# EAGLE library part K554SA3 (library _mtvl_ic.soviet)
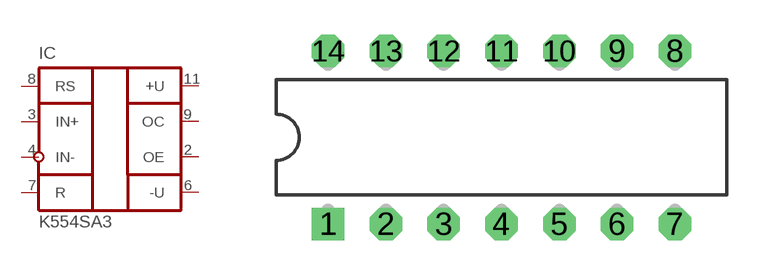
[diagram p5: symbol with the pads of 201.14-1; footprint 201.14-1]

Designator prefix IC

## K554SA3  [201.14-1]
2  OE
3  IN+
4  IN-
6  -U
7  R
8  RS
9  OC
11  +U

## Footprint 201.14-1 (pad centres in mm)
Dual In Line Package
drill 0.9 square: 1 -7.5,-3.75
drill 0.9 octagon: 2 -5,-3.75; 3 -2.5,-3.75; 4 0,-3.75; 5 2.5,-3.75; 6 5,-3.75; 7 7.5,-3.75; 8 7.5,3.75; 9 5,3.75; 10 2.5,3.75; 11 0,3.75; 12 -2.5,3.75; 13 -5,3.75; 14 -7.5,3.75